# Altium schematic symbol library SN74HC14N.SchLib: 1 symbol
Pins are listed as number, name and electrical type; pins without a type are passive.

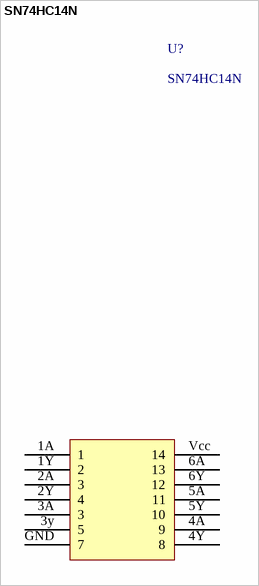
[diagram p0: symbol SN74HC14N]

## SN74HC14N
designator U?
pins: 1A 1, 1Y 2, 2A 3, 2Y 4, 3A 3, 3y 5, 4A 9, 4Y 8, 5A 11, 5Y 10, 6A 13, 6Y 12, GND 7, Vcc 14